# EAGLE library part FLASH-W25Q128JV (library joakim)
Winbond 16MB Flash Memory
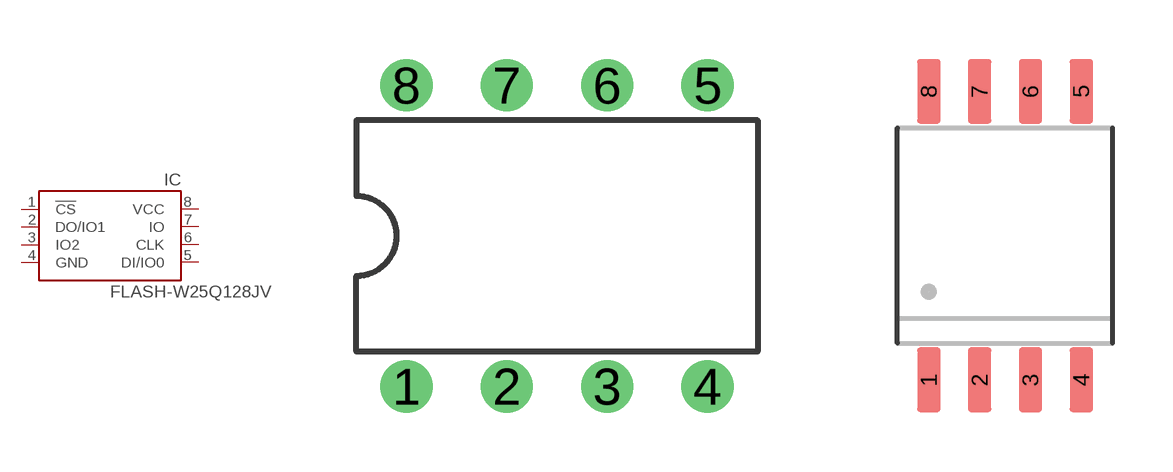
[diagram p52: symbol with the pads of DIL08J; footprints DIL08J, SO-8_208MIL]

Designator prefix IC

## FLASH-W25Q128JVP  [DIL08J]
1  !CS
2  DO/IO1
3  IO2
4  GND
5  DI/IO0
6  CLK
7  IO
8  VCC

## FLASH-W25Q128JVS  [SO-8_208MIL]
Pads as for DIL08J

## FLASH-W25Q128JVF  [DIL08J-FLAT]
Pads as for DIL08J

## Footprint DIL08J (pad centres in mm)
Dual In Line Package
drill 0.813 pad 1.27: 1 -3.81,-3.81; 2 -1.27,-3.81; 3 1.27,-3.81; 4 3.81,-3.81; 5 3.81,3.81; 6 1.27,3.81; 7 -1.27,3.81; 8 -3.81,3.81

## Footprint SO-8_208MIL (pad centres in mm)
8pin 208 mil wide SMD
smd 0.58 x 1.61: 1 -1.905,-3.605; 2 -0.635,-3.605; 3 0.635,-3.605; 4 1.905,-3.605; 5 1.905,3.605; 6 0.635,3.605; 7 -0.635,3.605; 8 -1.905,3.605

## Footprint DIL08J-FLAT (pad centres in mm)
Dual In Line Package
drill 0.813 pad 1.27: 1 -3.81,-3.81; 2 -1.27,-3.81; 3 1.27,-3.81; 4 3.81,-3.81; 5 3.81,3.81; 6 1.27,3.81; 7 -1.27,3.81; 8 -3.81,3.81